# Altium footprint library MSL0201RGBW1.PcbLib: 1 footprints
Each footprint in its own frame and in the unit in brackets; x right, y up, seen from the top. Pads: shape width x height; smd on the part's side, far side on the other; paste and mask are expansions set on the pad; w line width, h text height; cw(c..) or ccw(c..) is an arc to the next point about the centre after c.
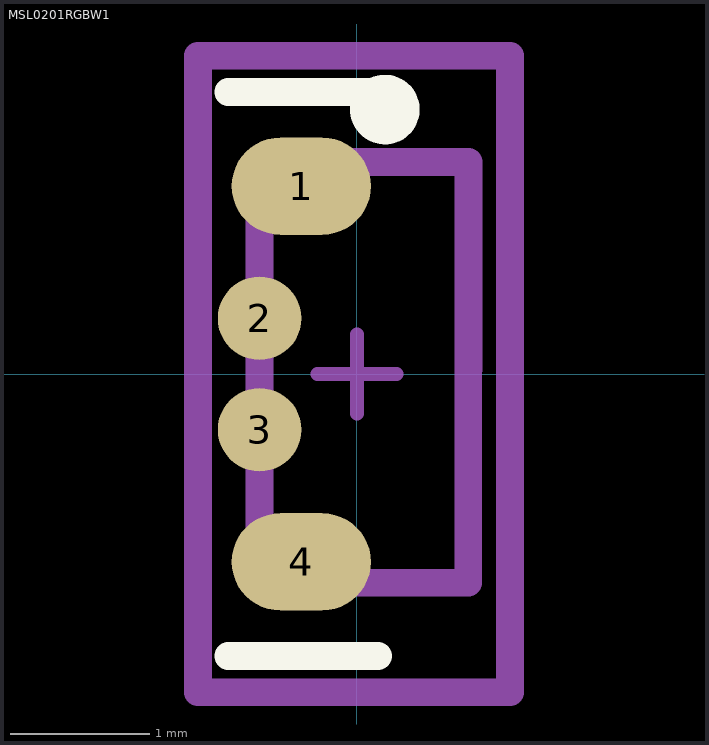
[diagram p0: the footprint, top view; thin cyan lines are the x and y axes]

## MSL0201RGBW1 [mm]
pads (4):
  oval 1x0.7 smd paste+0 mask+0: 1(-0.4,1.35) 4(-0.4,-1.35)
  round 0.6 smd paste+0 mask+0: 2(-0.7,0.4) 3(-0.7,-0.4)
Top Overlay:
  circle w0.25: c0.2,1.9 r0.125
  lines w0.2: -0.925,-2.025 0.15,-2.025 ; -0.925,2.025 0.15,2.025
Mechanical 2:
  lines w0.2: -0.7,-1.5 0.8,-1.5 0.801,1.524 -0.7,1.524 -0.7,-1.5
Mechanical 4:
  lines w0.1: -0.285,0 0.285,0 ; 0,-0.285 0,0.285
  lines w0.2: -1.143,-2.286 1.1,-2.286 1.1,2.286 -1.143,2.286 -1.143,-2.286
3D body "3dmodel.step": height 0.95, standoff -0.05, extent -0.703,-1.5 0.8,1.5